# Altium integrated library Renesas ASSP.IntLib: 185 symbols (part 3 of 6)
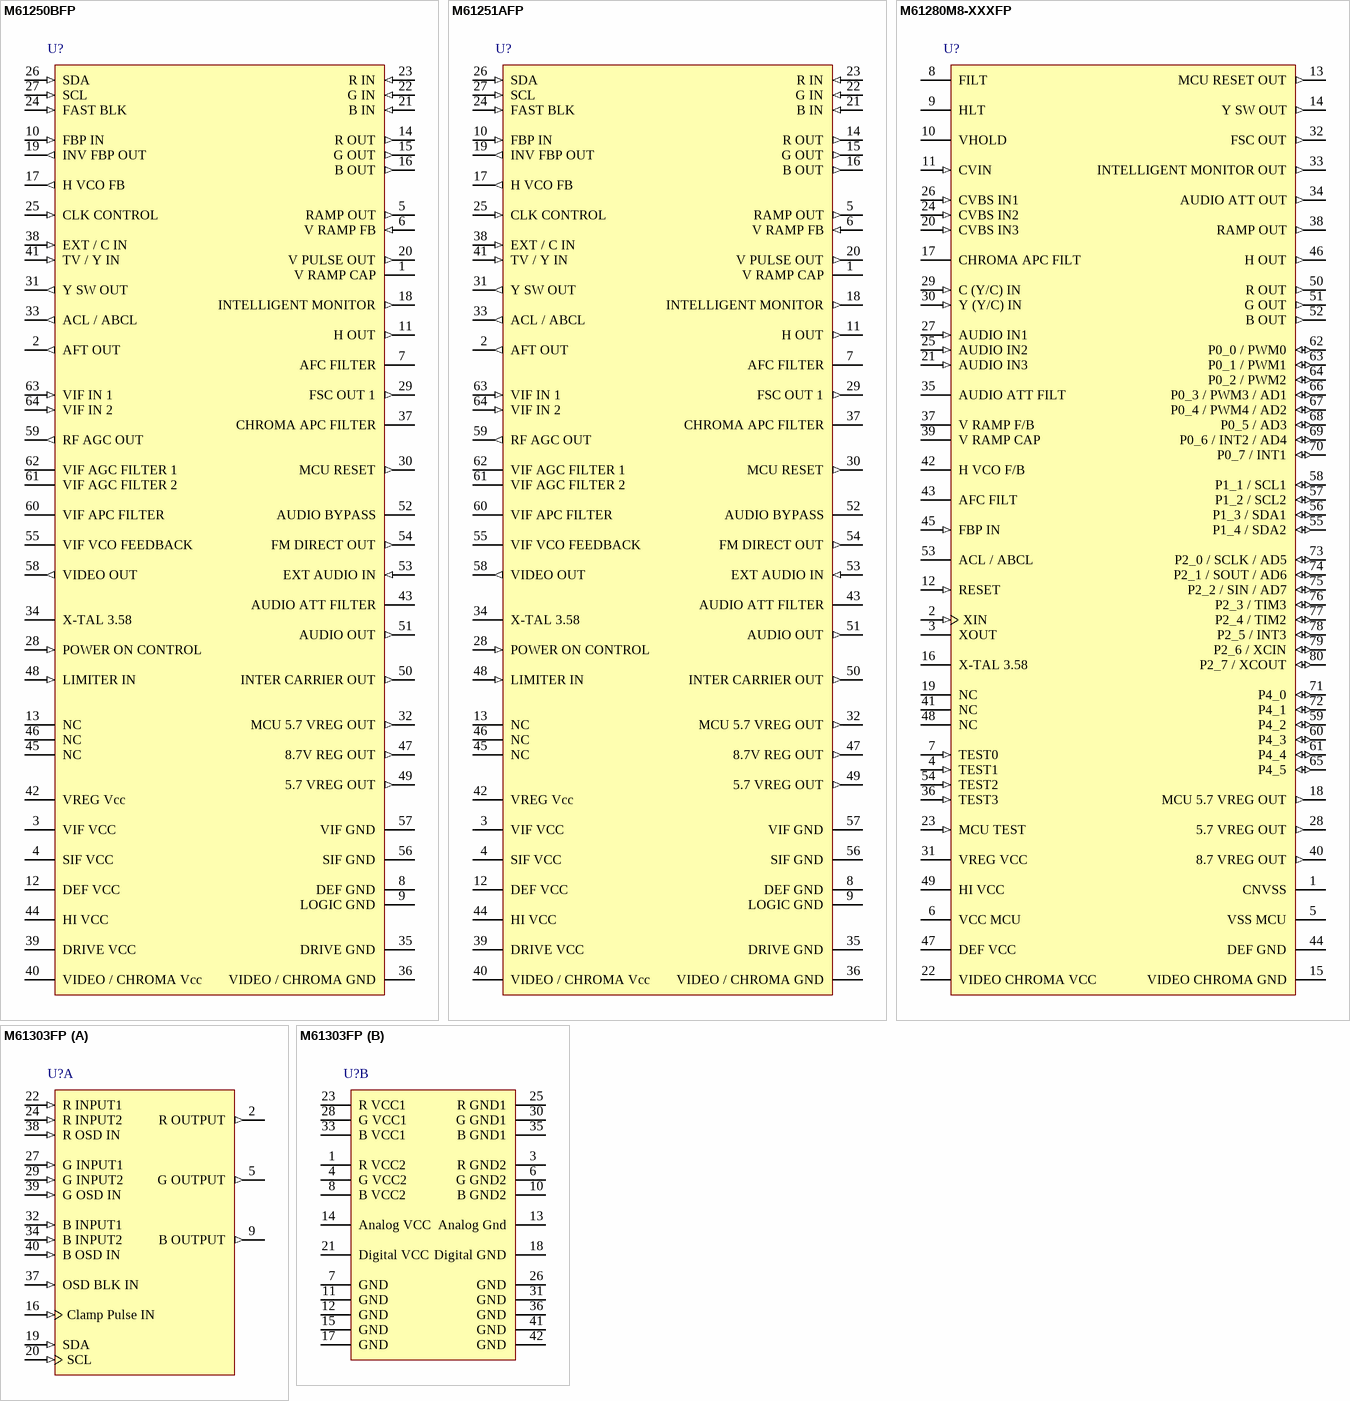
[diagram p18: symbols M61250BFP to M61303FP]

## M61250BFP
designator U?
NTSC 1 chip TV signal processor, 64-Pin QFP; Published: 5-Feb-2010; DatasheetVersion: Rev.1.0, Sep-2003; PackageVersion: Oct-2005; PackageReference: PLQP0064GA-A; Publisher: Altium Limited; PackageDescription: 64-Pin Plastic Low Profile QFP, 14 x 14 x 1.4 mm Body, 0.8 mm Pitch; Code_JEITA: P-LQFP64-14x14-0.80; ComponentLink1Description: Manufacturer Link; ComponentLink1URL: http://sg.renesas.com/fmwk.jsp?cnt=assp_category_landing.jsp&fp=/products/assp; ComponentLink2Description: Datasheet; ComponentLink2URL: http://documentation.renesas.com/eng/products/assp/rej03f0088_m61250bfp.pdf; ComponentLink3Description: Packaging Specification; ComponentLink3URL: http://sg.renesas.com/media/products/common_info/package/pdf/ic/code/plqp0064ga_a.pdf
footprint PLQP0064GA-A_N (QFP, 64-Leads, Body 14x14mm, Pitch 0.8mm, IPC Medium Density)
footprint PLQP0064GA-A_L (QFP, 64-Leads, Body 14x14mm, Pitch 0.8mm, IPC High Density)
footprint PLQP0064GA-A_M (QFP, 64-Leads, Body 14x14mm, Pitch 0.8mm, IPC Low Density)
pins: 1 V RAMP CAP, 2 AFT OUT (out), 3 VIF VCC (power), 4 SIF VCC (power), 5 RAMP OUT (out), 6 V RAMP FB (in), 7 AFC FILTER, 8 DEF GND (power), 9 LOGIC GND (power), 10 FBP IN (in), 11 H OUT (out), 12 DEF VCC (power), 13 NC, 14 R OUT (out), 15 G OUT (out), 16 B OUT (out), 17 H VCO FB (out), 18 INTELLIGENT MONITOR (out), 19 INV FBP OUT (out), 20 V PULSE OUT (out), 21 B IN (in), 22 G IN (in), 23 R IN (in), 24 FAST BLK (in), 25 CLK CONTROL (in), 26 SDA (in), 27 SCL (in), 28 POWER ON CONTROL (in), 29 FSC OUT 1 (out), 30 MCU RESET (out), 31 Y SW OUT (out), 32 MCU 5.7 VREG OUT (out), 33 ACL / ABCL (out), 34 X-TAL 3.58, 35 DRIVE GND (power), 36 VIDEO / CHROMA GND (power), 37 CHROMA APC FILTER, 38 EXT / C IN (in), 39 DRIVE VCC (power), 40 VIDEO / CHROMA Vcc (power), 41 TV / Y IN (in), 42 VREG Vcc (power), 43 AUDIO ATT FILTER, 44 HI VCC (power), 45 NC, 46 NC, 47 8.7V REG OUT (out), 48 LIMITER IN (in), 49 5.7 VREG OUT (out), 50 INTER CARRIER OUT (out), 51 AUDIO OUT (out), 52 AUDIO BYPASS, 53 EXT AUDIO IN (in), 54 FM DIRECT OUT (out), 55 VIF VCO FEEDBACK, 56 SIF GND (power), 57 VIF GND (power), 58 VIDEO OUT (out), 59 RF AGC OUT (out), 60 VIF APC FILTER, 61 VIF AGC FILTER 2, 62 VIF AGC FILTER 1, 63 VIF IN 1 (in), 64 VIF IN 2 (in)

## M61251AFP
designator U?
Single-chip NTSC TV signal processor, 64-Pin QFP; ComponentAvailability: Not Recommended for New Design; Published: 5-Feb-2010; DatasheetVersion: Rev.1.0, Sep-2003; PackageVersion: Oct-2005; PackageReference: PLQP0064GA-A; Publisher: Altium Limited; PackageDescription: 64-Pin Plastic Low Profile QFP, 14 x 14 x 1.4 mm Body, 0.8 mm Pitch; Code_JEITA: P-LQFP64-14x14-0.80; ComponentLink1Description: Manufacturer Link; ComponentLink1URL: http://sg.renesas.com/fmwk.jsp?cnt=assp_category_landing.jsp&fp=/products/assp; ComponentLink2Description: Datasheet; ComponentLink2URL: http://documentation.renesas.com/eng/products/assp/rej03f0078_m61251afp.pdf; ComponentLink3Description: Packaging Specification; ComponentLink3URL: http://sg.renesas.com/media/products/common_info/package/pdf/ic/code/plqp0064ga_a.pdf
footprint PLQP0064GA-A_N (QFP, 64-Leads, Body 14x14mm, Pitch 0.8mm, IPC Medium Density)
footprint PLQP0064GA-A_L (QFP, 64-Leads, Body 14x14mm, Pitch 0.8mm, IPC High Density)
footprint PLQP0064GA-A_M (QFP, 64-Leads, Body 14x14mm, Pitch 0.8mm, IPC Low Density)
pins: 1 V RAMP CAP, 2 AFT OUT (out), 3 VIF VCC (power), 4 SIF VCC (power), 5 RAMP OUT (out), 6 V RAMP FB (in), 7 AFC FILTER, 8 DEF GND (power), 9 LOGIC GND (power), 10 FBP IN (in), 11 H OUT (out), 12 DEF VCC (power), 13 NC, 14 R OUT (out), 15 G OUT (out), 16 B OUT (out), 17 H VCO FB (out), 18 INTELLIGENT MONITOR (out), 19 INV FBP OUT (out), 20 V PULSE OUT (out), 21 B IN (in), 22 G IN (in), 23 R IN (in), 24 FAST BLK (in), 25 CLK CONTROL (in), 26 SDA (in), 27 SCL (in), 28 POWER ON CONTROL (in), 29 FSC OUT 1 (out), 30 MCU RESET (out), 31 Y SW OUT (out), 32 MCU 5.7 VREG OUT (out), 33 ACL / ABCL (out), 34 X-TAL 3.58, 35 DRIVE GND (power), 36 VIDEO / CHROMA GND (power), 37 CHROMA APC FILTER, 38 EXT / C IN (in), 39 DRIVE VCC (power), 40 VIDEO / CHROMA Vcc (power), 41 TV / Y IN (in), 42 VREG Vcc (power), 43 AUDIO ATT FILTER, 44 HI VCC (power), 45 NC, 46 NC, 47 8.7V REG OUT (out), 48 LIMITER IN (in), 49 5.7 VREG OUT (out), 50 INTER CARRIER OUT (out), 51 AUDIO OUT (out), 52 AUDIO BYPASS, 53 EXT AUDIO IN (in), 54 FM DIRECT OUT (out), 55 VIF VCO FEEDBACK, 56 SIF GND (power), 57 VIF GND (power), 58 VIDEO OUT (out), 59 RF AGC OUT (out), 60 VIF APC FILTER, 61 VIF AGC FILTER 2, 62 VIF AGC FILTER 1, 63 VIF IN 1 (in), 64 VIF IN 2 (in)

## M61280M8-XXXFP
designator U?
NTSC TV Signal Processor with MCU, 80-Pin QFP; ComponentAvailability: EOL Product; Published: 5-Feb-2010; DatasheetVersion: Rev.1.0, Sep-2003; PackageVersion: Jan-2006; PackageReference: PLQP0080GA-A; Publisher: Altium Limited; PackageDescription: 80-Pin Plastic Quad Flat Pack, 20 x 14 x 1.4 mm Body, 0.8 mm Pitch; Code_JEITA: P-LQFP80-14x20-0.80; ComponentLink1Description: Manufacturer Link; ComponentLink1URL: http://sg.renesas.com/fmwk.jsp?cnt=assp_category_landing.jsp&fp=/products/assp; ComponentLink2Description: Datasheet; ComponentLink2URL: http://documentation.renesas.com/eng/products/assp/rej03f0053_m61280m8xxxfp.pdf; ComponentLink3Description: Packaging Specification; ComponentLink3URL: http://sg.renesas.com/media/products/common_info/package/pdf/ic/code/plqp0080ga_a.pdf
footprint PLQP0080GA-A_N (QFP, 80-Leads, Body 20x14mm, Pitch 0.8mm, IPC Medium Density)
footprint PLQP0080GA-A_L (QFP, 80-Leads, Body 20x14mm, Pitch 0.8mm, IPC High Density)
footprint PLQP0080GA-A_M (QFP, 80-Leads, Body 20x14mm, Pitch 0.8mm, IPC Low Density)
pins: 1 CNVSS (power), 2 XIN (in), 3 XOUT, 4 TEST1 (in), 5 VSS MCU (power), 6 VCC MCU (power), 7 TEST0 (in), 8 FILT, 9 HLT, 10 VHOLD, 11 CVIN (in), 12 RESET (in), 13 MCU RESET OUT (out), 14 Y SW OUT (out), 15 VIDEO CHROMA GND (power), 16 X-TAL 3.58, 17 CHROMA APC FILT, 18 MCU 5.7 VREG OUT (out), 19 NC, 20 CVBS IN3 (in), 21 AUDIO IN3 (in), 22 VIDEO CHROMA VCC (power), 23 MCU TEST (in), 24 CVBS IN2 (in), 25 AUDIO IN2 (in), 26 CVBS IN1 (in), 27 AUDIO IN1 (in), 28 5.7 VREG OUT (out), 29 C (Y/C) IN (in), 30 Y (Y/C) IN (in), 31 VREG VCC (power), 32 FSC OUT (out), 33 INTELLIGENT MONITOR OUT (out), 34 AUDIO ATT OUT (out), 35 AUDIO ATT FILT, 36 TEST3 (in), 37 V RAMP F/B, 38 RAMP OUT (out), 39 V RAMP CAP, 40 8.7 VREG OUT (out), 41 NC, 42 H VCO F/B, 43 AFC FILT, 44 DEF GND (power), 45 FBP IN (in), 46 H OUT (out), 47 DEF VCC (power), 48 NC, 49 HI VCC (power), 50 R OUT (out), 51 G OUT (out), 52 B OUT (out), 53 ACL / ABCL, 54 TEST2 (in), 55 P1_4 / SDA2 (io), 56 P1_3 / SDA1 (io), 57 P1_2 / SCL2 (io), 58 P1_1 / SCL1 (io), 59 P4_2 (io), 60 P4_3 (io), 61 P4_4 (io), 62 P0_0 / PWM0 (io), 63 P0_1 / PWM1 (io), 64 P0_2 / PWM2 (io), 65 P4_5 (io), 66 P0_3 / PWM3 / AD1 (io), 67 P0_4 / PWM4 / AD2 (io), 68 P0_5 / AD3 (io), 69 P0_6 / INT2 / AD4 (io), 70 P0_7 / INT1 (io), 71 P4_0 (io), 72 P4_1 (io), 73 P2_0 / SCLK / AD5 (io), 74 P2_1 / SOUT / AD6 (io), 75 P2_2 / SIN / AD7 (io), 76 P2_3 / TIM3 (io), 77 P2_4 / TIM2 (io), 78 P2_5 / INT3 (io), 79 P2_6 / XCIN (io), 80 P2_7 / XCOUT (io)

## M61303FP
designator U?
Bus Controlled 3 channel Video Pre-amp for LCD Display Monitor, 48-Pin SOP; ComponentAvailability: EOL Product; Published: 5-Feb-2010; DatasheetVersion: Rev.2.01, Mar-2008; PackageVersion: Aug-2005; PackageReference: PRSP0042GB-B; Publisher: Altium Limited; PackageDescription: 42-Pin Plastic Shrink SOP, 17.5 x 8.4 mm Body, 0.8 mm Pitch; Code_JEITA: P-HSSOP42-8.4x17.5-0.80; ComponentLink1Description: Manufacturer Link; ComponentLink1URL: http://sg.renesas.com/fmwk.jsp?cnt=assp_category_landing.jsp&fp=/products/assp; ComponentLink2Description: Datasheet; ComponentLink2URL: http://documentation.renesas.com/eng/products/assp/rej03f0198_m61303fpds.pdf; ComponentLink3Description: Packaging Specification; ComponentLink3URL: http://sg.renesas.com/media/products/common_info/package/pdf/ic/code/prsp0042gb_b.pdf
footprint PRSP0042GB-B_N (SOP, 42-Leads, Body 17.5x8.4mm, Pitch 0.8mm, Exposed Pad, IPC Medium Density)
footprint PRSP0042GB-B_L (SOP, 42-Leads, Body 17.5x8.4mm, Pitch 0.8mm, Exposed Pad, IPC High Density)
footprint PRSP0042GB-B_M (SOP, 42-Leads, Body 17.5x8.4mm, Pitch 0.8mm, Exposed Pad, IPC Low Density)
part A pins: 2 R OUTPUT (out), 5 G OUTPUT (out), 9 B OUTPUT (out), 16 Clamp Pulse IN (in), 19 SDA (in), 20 SCL (in), 22 R INPUT1 (in), 24 R INPUT2 (in), 27 G INPUT1 (in), 29 G INPUT2 (in), 32 B INPUT1 (in), 34 B INPUT2 (in), 37 OSD BLK IN (in), 38 R OSD IN (in), 39 G OSD IN (in), 40 B OSD IN (in)
part B pins: 1 R VCC2 (power), 3 R GND2 (power), 4 G VCC2 (power), 6 G GND2 (power), 7 GND (power), 8 B VCC2 (power), 10 B GND2 (power), 11 GND (power), 12 GND (power), 13 Analog Gnd (power), 14 Analog VCC (power), 15 GND (power), 17 GND (power), 18 Digital GND (power), 21 Digital VCC (power), 23 R VCC1 (power), 25 R GND1 (power), 26 GND (power), 28 G VCC1 (power), 30 G GND1 (power), 31 GND (power), 33 B VCC1 (power), 35 B GND1 (power), 36 GND (power), 41 GND (power), 42 GND (power)

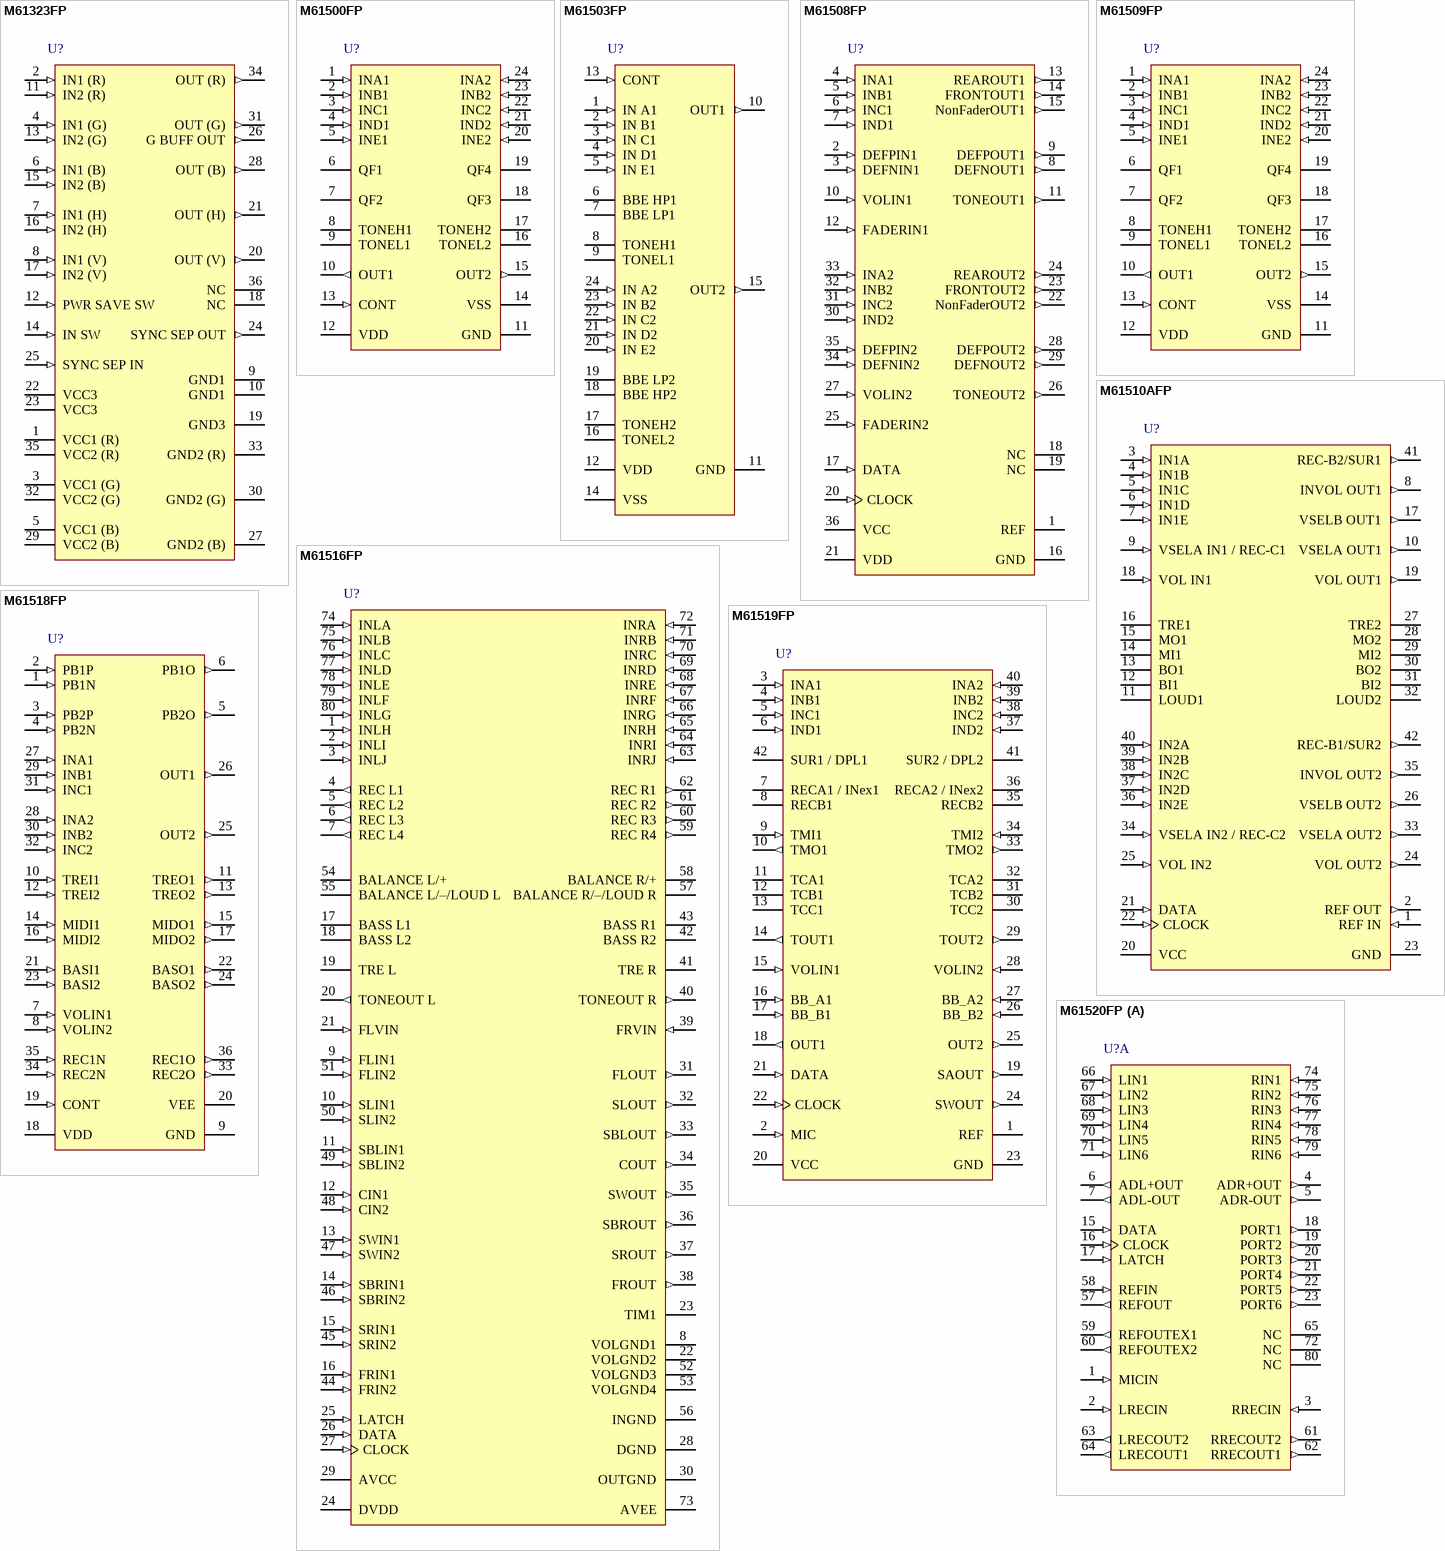
[diagram p6: symbols M61323FP to M61520FP]

## M61323FP
designator U?
Wide Frequency Band Analog Switch, 36-Pin SOP; ComponentAvailability: Not Recommended for New Design; Published: 5-Feb-2010; DatasheetVersion: Rev.2.01, Mar-2008; PackageVersion: Sep-2005; PackageReference: PRSP0036GA-B; Publisher: Altium Limited; PackageDescription: 36-Pin Plastic Shrink SOP, 15 x 8.4 mm Body, 0.8 mm Pitch; Code_JEITA: P-SSOP36-8.4x15-0.80; ComponentLink1Description: Manufacturer Link; ComponentLink1URL: http://sg.renesas.com/fmwk.jsp?cnt=assp_category_landing.jsp&fp=/products/assp; ComponentLink2Description: Datasheet; ComponentLink2URL: http://documentation.renesas.com/eng/products/assp/rej03f0201_m61323spds.pdf; ComponentLink3Description: Packaging Specification; ComponentLink3URL: http://sg.renesas.com/media/products/common_info/package/pdf/ic/code/prsp0036ga_b.pdf
footprint PRSP0036GA-B_N (SOP, 36-Leads, Body 15x8.4mm, Pitch 0.8mm, IPC Medium Density)
footprint PRSP0036GA-B_L (SOP, 36-Leads, Body 15x8.4mm, Pitch 0.8mm, IPC High Density)
footprint PRSP0036GA-B_M (SOP, 36-Leads, Body 15x8.4mm, Pitch 0.8mm, IPC Low Density)
pins: 1 VCC1 (R) (power), 2 IN1 (R) (in), 3 VCC1 (G) (power), 4 IN1 (G) (in), 5 VCC1 (B) (power), 6 IN1 (B) (in), 7 IN1 (H) (in), 8 IN1 (V) (in), 9 GND1 (power), 10 GND1 (power), 11 IN2 (R) (in), 12 PWR SAVE SW (in), 13 IN2 (G) (in), 14 IN SW (in), 15 IN2 (B) (in), 16 IN2 (H) (in), 17 IN2 (V) (in), 18 NC, 19 GND3 (power), 20 OUT (V) (out), 21 OUT (H) (out), 22 VCC3 (power), 23 VCC3 (power), 24 SYNC SEP OUT (out), 25 SYNC SEP IN (in), 26 G BUFF OUT (out), 27 GND2 (B) (power), 28 OUT (B) (out), 29 VCC2 (B) (power), 30 GND2 (G) (power), 31 OUT (G) (out), 32 VCC2 (G) (power), 33 GND2 (R) (power), 34 OUT (R) (out), 35 VCC2 (R) (power), 36 NC

## M61500FP
designator U?
Sound Controller with Qsurround, 24-Pin SOP; Published: 5-Feb-2010; DatasheetVersion: Rev.2.00, Jun-2008; PackageVersion: Sep-2005; PackageReference: PRSP0024GA-A; Publisher: Altium Limited; PackageDescription: 24-Pin Plastic Shrink SOP, 10.1 x 5.3 x 1.8 mm Body, 0.8 mm Pitch; Code_JEITA: P-SSOP24-5.3x10.1-0.80; ComponentLink1Description: Manufacturer Link; ComponentLink1URL: http://sg.renesas.com/fmwk.jsp?cnt=assp_category_landing.jsp&fp=/products/assp; ComponentLink2Description: Datasheet; ComponentLink2URL: http://documentation.renesas.com/eng/products/assp/rej03f0274_m61500fpds.pdf; ComponentLink3Description: Packaging Specification; ComponentLink3URL: http://sg.renesas.com/media/products/common_info/package/pdf/ic/code/prsp0024ga_a.pdf
footprint PRSP0024GA-A_N (SOP, 24-Leads, Body 10.1x5.3mm, Pitch 0.8mm, IPC Medium Density)
footprint PRSP0024GA-A_L (SOP, 24-Leads, Body 10.1x5.3mm, Pitch 0.8mm, IPC High Density)
footprint PRSP0024GA-A_M (SOP, 24-Leads, Body 10.1x5.3mm, Pitch 0.8mm, IPC Low Density)
pins: 1 INA1 (in), 2 INB1 (in), 3 INC1 (in), 4 IND1 (in), 5 INE1 (in), 6 QF1, 7 QF2, 8 TONEH1, 9 TONEL1, 10 OUT1 (out), 11 GND (power), 12 VDD (power), 13 CONT (in), 14 VSS (power), 15 OUT2 (out), 16 TONEL2, 17 TONEH2, 18 QF3, 19 QF4, 20 INE2 (in), 21 IND2 (in), 22 INC2 (in), 23 INB2 (in), 24 INA2 (in)

## M61503FP
designator U?
Sound Controller with BBE, 24-Pin SOP; Published: 5-Feb-2010; DatasheetVersion: Rev.2.01, Mar-2008; PackageVersion: Sep-2005; PackageReference: PRSP0024GA-A; Publisher: Altium Limited; PackageDescription: 24-Pin Plastic Shrink SOP, 10.1 x 5.3 x 1.8 mm Body, 0.8 mm Pitch; Code_JEITA: P-SSOP24-5.3x10.1-0.80; ComponentLink1Description: Manufacturer Link; ComponentLink1URL: http://sg.renesas.com/fmwk.jsp?cnt=assp_category_landing.jsp&fp=/products/assp; ComponentLink2Description: Datasheet; ComponentLink2URL: http://documentation.renesas.com/eng/products/assp/rej03f0214_m61503fpds.pdf; ComponentLink3Description: Packaging Specification; ComponentLink3URL: http://sg.renesas.com/media/products/common_info/package/pdf/ic/code/prsp0024ga_a.pdf
footprint PRSP0024GA-A_N (SOP, 24-Leads, Body 10.1x5.3mm, Pitch 0.8mm, IPC Medium Density)
footprint PRSP0024GA-A_L (SOP, 24-Leads, Body 10.1x5.3mm, Pitch 0.8mm, IPC High Density)
footprint PRSP0024GA-A_M (SOP, 24-Leads, Body 10.1x5.3mm, Pitch 0.8mm, IPC Low Density)
pins: 1 IN A1 (in), 2 IN B1 (in), 3 IN C1 (in), 4 IN D1 (in), 5 IN E1 (in), 6 BBE HP1, 7 BBE LP1, 8 TONEH1, 9 TONEL1, 10 OUT1 (out), 11 GND (power), 12 VDD (power), 13 CONT (in), 14 VSS (power), 15 OUT2 (out), 16 TONEL2, 17 TONEH2, 18 BBE HP2, 19 BBE LP2, 20 IN E2 (in), 21 IN D2 (in), 22 IN C2 (in), 23 IN B2 (in), 24 IN A2 (in)

## M61508FP
designator U?
SCF Type Electronic Volume with Parametric Equalizer, 36-Pin SOP; Published: 5-Feb-2010; DatasheetVersion: Rev.2.01, Mar-2008; PackageVersion: Sep-2005; PackageReference: PRSP0036GA-A; Publisher: Altium Limited; PackageDescription: 36-Pin Plastic Shrink SOP, 15 x 8.4 mm Body, 0.8 mm Pitch; Code_JEITA: P-SSOP36-8.4x15-0.80; ComponentLink1Description: Manufacturer Link; ComponentLink1URL: http://sg.renesas.com/fmwk.jsp?cnt=assp_category_landing.jsp&fp=/products/assp; ComponentLink2Description: Datasheet; ComponentLink2URL: http://documentation.renesas.com/eng/products/assp/rej03f0203_m61508fpds.pdf; ComponentLink3Description: Packaging Specification; ComponentLink3URL: http://sg.renesas.com/media/products/common_info/package/pdf/ic/code/prsp0036ga_a.pdf
footprint PRSP0036GA-A_N (SOP, 36-Leads, Body 15x8.4mm, Pitch 0.8mm, IPC Medium Density)
footprint PRSP0036GA-A_L (SOP, 36-Leads, Body 15x8.4mm, Pitch 0.8mm, IPC High Density)
footprint PRSP0036GA-A_M (SOP, 36-Leads, Body 15x8.4mm, Pitch 0.8mm, IPC Low Density)
pins: 1 REF (power), 2 DEFPIN1 (in), 3 DEFNIN1 (in), 4 INA1 (in), 5 INB1 (in), 6 INC1 (in), 7 IND1 (in), 8 DEFNOUT1 (out), 9 DEFPOUT1 (out), 10 VOLIN1 (in), 11 TONEOUT1 (out), 12 FADERIN1 (in), 13 REAROUT1 (out), 14 FRONTOUT1 (out), 15 NonFaderOUT1 (out), 16 GND (power), 17 DATA (in), 18 NC, 19 NC, 20 CLOCK (in), 21 VDD (power), 22 NonFaderOUT2 (out), 23 FRONTOUT2 (out), 24 REAROUT2 (out), 25 FADERIN2 (in), 26 TONEOUT2 (out), 27 VOLIN2 (in), 28 DEFPOUT2 (out), 29 DEFNOUT2 (out), 30 IND2 (in), 31 INC2 (in), 32 INB2 (in), 33 INA2 (in), 34 DEFNIN2 (in), 35 DEFPIN2 (in), 36 VCC (power)

## M61509FP
designator U?
Sound Controller with QXpander, 24-Pin SOP; Published: 5-Feb-2010; DatasheetVersion: Rev.2.01, Mar-2008; PackageVersion: Sep-2005; PackageReference: PRSP0024GA-A; Publisher: Altium Limited; PackageDescription: 24-Pin Plastic Shrink SOP, 10.1 x 5.3 x 1.8 mm Body, 0.8 mm Pitch; Code_JEITA: P-SSOP24-5.3x10.1-0.80; ComponentLink1Description: Manufacturer Link; ComponentLink1URL: http://sg.renesas.com/fmwk.jsp?cnt=assp_category_landing.jsp&fp=/products/assp; ComponentLink2Description: Datasheet; ComponentLink2URL: http://documentation.renesas.com/eng/products/assp/rej03f0215_m61509fpds.pdf; ComponentLink3Description: Packaging Specification; ComponentLink3URL: http://sg.renesas.com/media/products/common_info/package/pdf/ic/code/prsp0024ga_a.pdf
footprint PRSP0024GA-A_N (SOP, 24-Leads, Body 10.1x5.3mm, Pitch 0.8mm, IPC Medium Density)
footprint PRSP0024GA-A_L (SOP, 24-Leads, Body 10.1x5.3mm, Pitch 0.8mm, IPC High Density)
footprint PRSP0024GA-A_M (SOP, 24-Leads, Body 10.1x5.3mm, Pitch 0.8mm, IPC Low Density)
pins: 1 INA1 (in), 2 INB1 (in), 3 INC1 (in), 4 IND1 (in), 5 INE1 (in), 6 QF1, 7 QF2, 8 TONEH1, 9 TONEL1, 10 OUT1 (out), 11 GND (power), 12 VDD (power), 13 CONT (in), 14 VSS (power), 15 OUT2 (out), 16 TONEL2, 17 TONEH2, 18 QF3, 19 QF4, 20 INE2 (in), 21 IND2 (in), 22 INC2 (in), 23 INB2 (in), 24 INA2 (in)

## M61510AFP
designator U?
Sound Controller for Quality/Sound Field Control, with Built-In Surround Sound, 42-Pin SOP; Published: 5-Feb-2010; DatasheetVersion: Rev.1.00, Aug-2003; PackageVersion: Sep-2005; PackageReference: PRSP0042GA-B; Publisher: Altium Limited; PackageDescription: 42-Pin Plastic Shrink SOP, 17.5 x 8.4 mm Body, 0.8 mm Pitch; Code_JEITA: P-SSOP42-8.4x17.5-0.80; ComponentLink1Description: Manufacturer Link; ComponentLink1URL: http://sg.renesas.com/fmwk.jsp?cnt=assp_category_landing.jsp&fp=/products/assp; ComponentLink2Description: Datasheet; ComponentLink2URL: http://documentation.renesas.com/eng/products/assp/rej03f0013_m61510afp.pdf; ComponentLink3Description: Packaging Specification; ComponentLink3URL: http://sg.renesas.com/media/products/common_info/package/pdf/ic/code/prsp0042ga_b.pdf
footprint PRSP0042GA-B_N (SOP, 42-Leads, Body 17.5x8.4mm, Pitch 0.8mm, IPC Medium Density)
footprint PRSP0042GA-B_L (SOP, 42-Leads, Body 17.5x8.4mm, Pitch 0.8mm, IPC High Density)
footprint PRSP0042GA-B_M (SOP, 42-Leads, Body 17.5x8.4mm, Pitch 0.8mm, IPC Low Density)
pins: 1 REF IN (in), 2 REF OUT (out), 3 IN1A (in), 4 IN1B (in), 5 IN1C (in), 6 IN1D (in), 7 IN1E (in), 8 INVOL OUT1 (out), 9 VSELA IN1 / REC-C1 (in), 10 VSELA OUT1 (out), 11 LOUD1, 12 BI1, 13 BO1, 14 MI1, 15 MO1, 16 TRE1, 17 VSELB OUT1 (out), 18 VOL IN1 (in), 19 VOL OUT1 (out), 20 VCC (power), 21 DATA (in), 22 CLOCK (in), 23 GND (power), 24 VOL OUT2 (out), 25 VOL IN2 (in), 26 VSELB OUT2 (out), 27 TRE2, 28 MO2, 29 MI2, 30 BO2, 31 BI2, 32 LOUD2, 33 VSELA OUT2 (out), 34 VSELA IN2 / REC-C2 (in), 35 INVOL OUT2 (out), 36 IN2E (in), 37 IN2D (in), 38 IN2C (in), 39 IN2B (in), 40 IN2A (in), 41 REC-B2/SUR1 (out), 42 REC-B1/SUR2 (out)

## M61516FP
designator U?
7.1ch Electronic Volume with 10 Input Selector, 80-Pin QFP; Published: 5-Feb-2010; DatasheetVersion: Rev.2.01, Mar-2008; PackageVersion: Sep-2005; PackageReference: PRQP0080GB-A; Publisher: Altium Limited; PackageDescription: 80-Pin Plastic Quad Flat Pack, 20 x 14 x 2.8 mm Body, 0.8 mm Pitch; Code_JEITA: P-QFP80-14x20-0.80; ComponentLink1Description: Manufacturer Link; ComponentLink1URL: http://sg.renesas.com/fmwk.jsp?cnt=assp_category_landing.jsp&fp=/products/assp; ComponentLink2Description: Datasheet; ComponentLink2URL: http://documentation.renesas.com/eng/products/assp/rej03f0204_m61516fpds.pdf; ComponentLink3Description: Packaging Specification; ComponentLink3URL: http://sg.renesas.com/media/products/common_info/package/pdf/ic/code/prqp0080gb_a.pdf
footprint PRQP0080GB-A_N (QFP, 80-Leads, Body 20x14mm, Pitch 0.8mm, IPC Medium Density)
footprint PRQP0080GB-A_L (QFP, 80-Leads, Body 20x14mm, Pitch 0.8mm, IPC High Density)
footprint PRQP0080GB-A_M (QFP, 80-Leads, Body 20x14mm, Pitch 0.8mm, IPC Low Density)
pins: 1 INLH (in), 2 INLI (in), 3 INLJ (in), 4 REC L1 (out), 5 REC L2 (out), 6 REC L3 (out), 7 REC L4 (out), 8 VOLGND1 (power), 9 FLIN1 (in), 10 SLIN1 (in), 11 SBLIN1 (in), 12 CIN1 (in), 13 SWIN1 (in), 14 SBRIN1 (in), 15 SRIN1 (in), 16 FRIN1 (in), 17 BASS L1, 18 BASS L2, 19 TRE L, 20 TONEOUT L (out), 21 FLVIN (in), 22 VOLGND2 (power), 23 TIM1, 24 DVDD (power), 25 LATCH (in), 26 DATA (in), 27 CLOCK (in), 28 DGND (power), 29 AVCC (power), 30 OUTGND (power), 31 FLOUT (out), 32 SLOUT (out), 33 SBLOUT (out), 34 COUT (out), 35 SWOUT (out), 36 SBROUT (out), 37 SROUT (out), 38 FROUT (out), 39 FRVIN (in), 40 TONEOUT R (out), 41 TRE R, 42 BASS R2, 43 BASS R1, 44 FRIN2 (in), 45 SRIN2 (in), 46 SBRIN2 (in), 47 SWIN2 (in), 48 CIN2 (in), 49 SBLIN2 (in), 50 SLIN2 (in), 51 FLIN2 (in), 52 VOLGND3 (power), 53 VOLGND4 (power), 54 BALANCE L/+, 55 BALANCE L/–/LOUD L, 56 INGND (power), 57 BALANCE R/–/LOUD R, 58 BALANCE R/+, 59 REC R4 (out), 60 REC R3 (out), 61 REC R2 (out), 62 REC R1 (out), 63 INRJ (in), 64 INRI (in), 65 INRH (in), 66 INRG (in), 67 INRF (in), 68 INRE (in), 69 INRD (in), 70 INRC (in), 71 INRB (in), 72 INRA (in), 73 AVEE (power), 74 INLA (in), 75 INLB (in), 76 INLC (in), 77 INLD (in), 78 INLE (in), 79 INLF (in), 80 INLG (in)

## M61518FP
designator U?
Audio signal Processor with Recording/Playback Amplifier, 36-Pin SOP; Published: 5-Feb-2010; DatasheetVersion: Rev.2.01, Mar-2008; PackageVersion: Sep-2005; PackageReference: PRSP0036GA-B; Publisher: Altium Limited; PackageDescription: 36-Pin Plastic Shrink SOP, 15 x 8.4 mm Body, 0.8 mm Pitch; Code_JEITA: P-SSOP36-8.4x15-0.80; ComponentLink1Description: Manufacturer Link; ComponentLink1URL: http://sg.renesas.com/fmwk.jsp?cnt=assp_category_landing.jsp&fp=/products/assp; ComponentLink2Description: Datasheet; ComponentLink2URL: http://documentation.renesas.com/eng/products/assp/rej03f0205_m61518fpds.pdf; ComponentLink3Description: Packaging Specification; ComponentLink3URL: http://sg.renesas.com/media/products/common_info/package/pdf/ic/code/prsp0036ga_b.pdf
footprint PRSP0036GA-B_N (SOP, 36-Leads, Body 15x8.4mm, Pitch 0.8mm, IPC Medium Density)
footprint PRSP0036GA-B_L (SOP, 36-Leads, Body 15x8.4mm, Pitch 0.8mm, IPC High Density)
footprint PRSP0036GA-B_M (SOP, 36-Leads, Body 15x8.4mm, Pitch 0.8mm, IPC Low Density)
pins: 1 PB1N (in), 2 PB1P (in), 3 PB2P (in), 4 PB2N (in), 5 PB2O (out), 6 PB1O (out), 7 VOLIN1 (in), 8 VOLIN2 (in), 9 GND (power), 10 TREI1 (in), 11 TREO1 (out), 12 TREI2 (in), 13 TREO2 (out), 14 MIDI1 (in), 15 MIDO1 (out), 16 MIDI2 (in), 17 MIDO2 (out), 18 VDD (power), 19 CONT (in), 20 VEE (power), 21 BASI1 (in), 22 BASO1 (out), 23 BASI2 (in), 24 BASO2 (out), 25 OUT2 (out), 26 OUT1 (out), 27 INA1 (in), 28 INA2 (in), 29 INB1 (in), 30 INB2 (in), 31 INC1 (in), 32 INC2 (in), 33 REC2O (out), 34 REC2N (in), 35 REC1N (in), 36 REC1O (out)

## M61519FP
designator U?
Audio Signal Processor with Surround and Input Selector, 42-Pin SOP; Published: 5-Feb-2010; DatasheetVersion: Rev.2.01, Mar-2008; PackageVersion: Sep-2005; PackageReference: PRSP0042GA-B; Publisher: Altium Limited; PackageDescription: 42-Pin Plastic Shrink SOP, 17.5 x 8.4 mm Body, 0.8 mm Pitch; Code_JEITA: P-SSOP42-8.4x17.5-0.80; ComponentLink1Description: Manufacturer Link; ComponentLink1URL: http://sg.renesas.com/fmwk.jsp?cnt=assp_category_landing.jsp&fp=/products/assp; ComponentLink2Description: Datasheet; ComponentLink2URL: http://documentation.renesas.com/eng/products/assp/rej03f0206_m61519fpds.pdf; ComponentLink3Description: Packaging Specification; ComponentLink3URL: http://sg.renesas.com/media/products/common_info/package/pdf/ic/code/prsp0042ga_b.pdf
footprint PRSP0042GA-B_N (SOP, 42-Leads, Body 17.5x8.4mm, Pitch 0.8mm, IPC Medium Density)
footprint PRSP0042GA-B_L (SOP, 42-Leads, Body 17.5x8.4mm, Pitch 0.8mm, IPC High Density)
footprint PRSP0042GA-B_M (SOP, 42-Leads, Body 17.5x8.4mm, Pitch 0.8mm, IPC Low Density)
pins: 1 REF (power), 2 MIC (in), 3 INA1 (in), 4 INB1 (in), 5 INC1 (in), 6 IND1 (in), 7 RECA1 / INex1, 8 RECB1, 9 TMI1 (in), 10 TMO1 (out), 11 TCA1, 12 TCB1, 13 TCC1, 14 TOUT1 (out), 15 VOLIN1 (in), 16 BB_A1 (in), 17 BB_B1 (in), 18 OUT1 (out), 19 SAOUT (out), 20 VCC (power), 21 DATA (in), 22 CLOCK (in), 23 GND (power), 24 SWOUT (out), 25 OUT2 (out), 26 BB_B2 (in), 27 BB_A2 (in), 28 VOLIN2 (in), 29 TOUT2 (out), 30 TCC2, 31 TCB2, 32 TCA2, 33 TMO2 (out), 34 TMI2 (in), 35 RECB2, 36 RECA2 / INex2, 37 IND2 (in), 38 INC2 (in), 39 INB2 (in), 40 INA2 (in), 41 SUR2 / DPL2, 42 SUR1 / DPL1

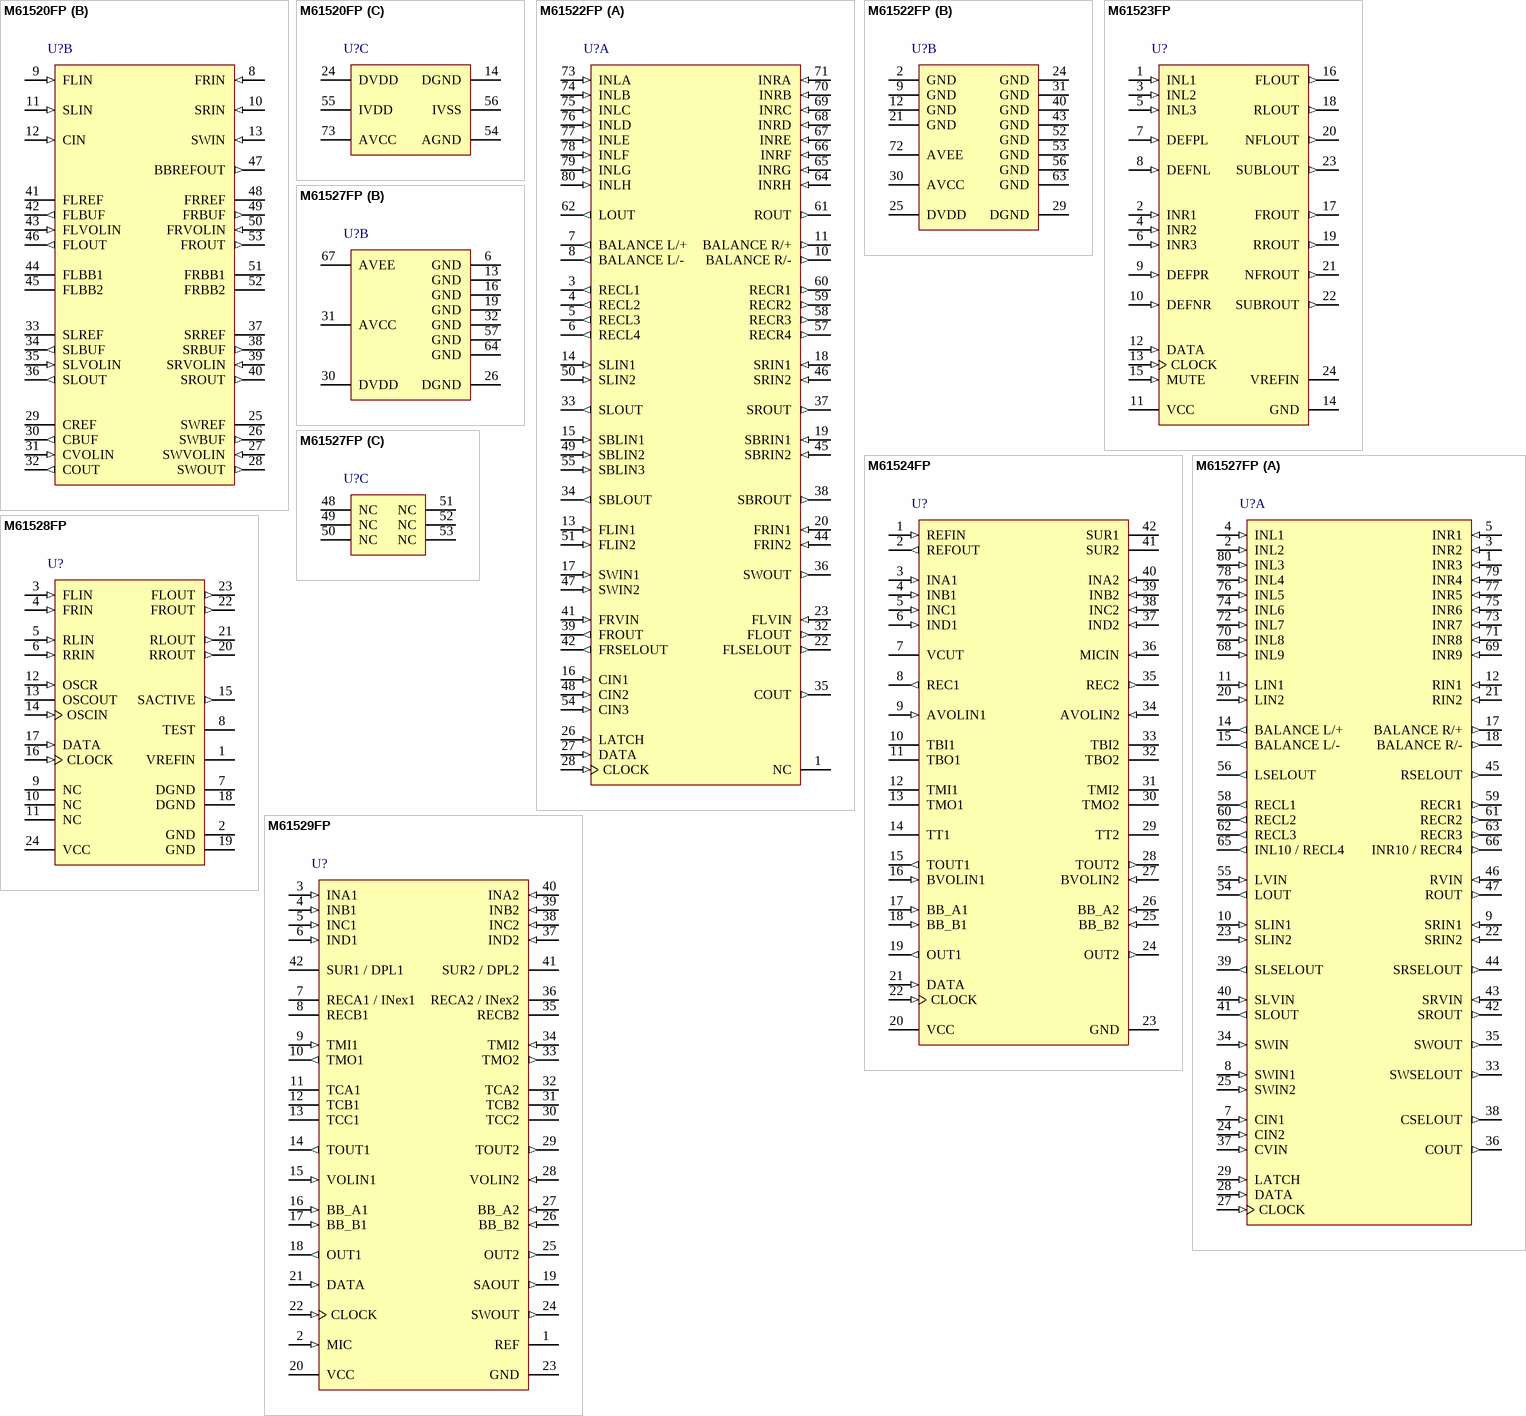
[diagram p7: symbols M61520FP to M61529FP]

## M61520FP
designator U?
6-Channel Electronic Volume with Tone Control, 80-Pin QFP; Published: 5-Feb-2010; DatasheetVersion: Rev.1.0, Sep-2003; PackageVersion: Sep-2005; PackageReference: PRQP0080GB-A; Publisher: Altium Limited; PackageDescription: 80-Pin Plastic Quad Flat Pack, 20 x 14 x 2.8 mm Body, 0.8 mm Pitch; Code_JEITA: P-QFP80-14x20-0.80; ComponentLink1Description: Manufacturer Link; ComponentLink1URL: http://sg.renesas.com/fmwk.jsp?cnt=assp_category_landing.jsp&fp=/products/assp; ComponentLink2Description: Datasheet; ComponentLink2URL: http://documentation.renesas.com/eng/products/assp/rej03f0057_m61520fp.pdf; ComponentLink3Description: Packaging Specification; ComponentLink3URL: http://sg.renesas.com/media/products/common_info/package/pdf/ic/code/prqp0080gb_a.pdf
footprint PRQP0080GB-A_N (QFP, 80-Leads, Body 20x14mm, Pitch 0.8mm, IPC Medium Density)
footprint PRQP0080GB-A_L (QFP, 80-Leads, Body 20x14mm, Pitch 0.8mm, IPC High Density)
footprint PRQP0080GB-A_M (QFP, 80-Leads, Body 20x14mm, Pitch 0.8mm, IPC Low Density)
part A pins: 1 MICIN (in), 2 LRECIN (in), 3 RRECIN (in), 4 ADR+OUT (out), 5 ADR-OUT (out), 6 ADL+OUT (out), 7 ADL-OUT (out), 15 DATA (in), 16 CLOCK (in), 17 LATCH (in), 18 PORT1 (out), 19 PORT2 (out), 20 PORT3 (out), 21 PORT4 (out), 22 PORT5 (out), 23 PORT6 (out), 57 REFOUT (out), 58 REFIN (in), 59 REFOUTEX1 (out), 60 REFOUTEX2 (out), 61 RRECOUT2 (out), 62 RRECOUT1 (out), 63 LRECOUT2 (out), 64 LRECOUT1 (out), 65 NC, 66 LIN1 (in), 67 LIN2 (in), 68 LIN3 (in), 69 LIN4 (in), 70 LIN5 (in), 71 LIN6 (in), 72 NC, 74 RIN1 (in), 75 RIN2 (in), 76 RIN3 (in), 77 RIN4 (in), 78 RIN5 (in), 79 RIN6 (in), 80 NC
part B pins: 8 FRIN (in), 9 FLIN (in), 10 SRIN (in), 11 SLIN (in), 12 CIN (in), 13 SWIN (in), 25 SWREF, 26 SWBUF (out), 27 SWVOLIN (in), 28 SWOUT (out), 29 CREF, 30 CBUF (out), 31 CVOLIN (in), 32 COUT (out), 33 SLREF, 34 SLBUF (out), 35 SLVOLIN (in), 36 SLOUT (out), 37 SRREF, 38 SRBUF (out), 39 SRVOLIN (in), 40 SROUT (out), 41 FLREF, 42 FLBUF (out), 43 FLVOLIN (in), 44 FLBB1, 45 FLBB2, 46 FLOUT (out), 47 BBREFOUT (out), 48 FRREF, 49 FRBUF (out), 50 FRVOLIN (in), 51 FRBB1, 52 FRBB2, 53 FROUT (out)
part C pins: 14 DGND, 24 DVDD, 54 AGND, 55 IVDD, 56 IVSS, 73 AVCC

## M61522FP
designator U?
8-Channel Electronic Volume with 8 Input Selectors, 80-Pin QFP; Published: 5-Feb-2010; DatasheetVersion: Rev.1.0, Sep-2003; PackageVersion: Sep-2005; PackageReference: PRQP0080GB-A; Publisher: Altium Limited; PackageDescription: 80-Pin Plastic Quad Flat Pack, 20 x 14 x 2.8 mm Body, 0.8 mm Pitch; Code_JEITA: P-QFP80-14x20-0.80; ComponentLink1Description: Manufacturer Link; ComponentLink1URL: http://sg.renesas.com/fmwk.jsp?cnt=assp_category_landing.jsp&fp=/products/assp; ComponentLink2Description: Datasheet; ComponentLink2URL: http://documentation.renesas.com/eng/products/assp/rej03f0034_m61522fp.pdf; ComponentLink3Description: Packaging Specification; ComponentLink3URL: http://sg.renesas.com/media/products/common_info/package/pdf/ic/code/prqp0080gb_a.pdf
footprint PRQP0080GB-A_N (QFP, 80-Leads, Body 20x14mm, Pitch 0.8mm, IPC Medium Density)
footprint PRQP0080GB-A_L (QFP, 80-Leads, Body 20x14mm, Pitch 0.8mm, IPC High Density)
footprint PRQP0080GB-A_M (QFP, 80-Leads, Body 20x14mm, Pitch 0.8mm, IPC Low Density)
part A pins: 1 NC, 3 RECL1 (out), 4 RECL2 (out), 5 RECL3 (out), 6 RECL4 (out), 7 BALANCE L/+ (out), 8 BALANCE L/- (out), 10 BALANCE R/- (out), 11 BALANCE R/+ (out), 13 FLIN1 (in), 14 SLIN1 (in), 15 SBLIN1 (in), 16 CIN1 (in), 17 SWIN1 (in), 18 SRIN1 (in), 19 SBRIN1 (in), 20 FRIN1 (in), 22 FLSELOUT (out), 23 FLVIN (in), 26 LATCH (in), 27 DATA (in), 28 CLOCK (in), 32 FLOUT (out), 33 SLOUT (out), 34 SBLOUT (out), 35 COUT (out), 36 SWOUT (out), 37 SROUT (out), 38 SBROUT (out), 39 FROUT (out), 41 FRVIN (in), 42 FRSELOUT (out), 44 FRIN2 (in), 45 SBRIN2 (in), 46 SRIN2 (in), 47 SWIN2 (in), 48 CIN2 (in), 49 SBLIN2 (in), 50 SLIN2 (in), 51 FLIN2 (in), 54 CIN3 (in), 55 SBLIN3 (in), 57 RECR4 (out), 58 RECR3 (out), 59 RECR2 (out), 60 RECR1 (out), 61 ROUT (out), 62 LOUT (out), 64 INRH (in), 65 INRG (in), 66 INRF (in), 67 INRE (in), 68 INRD (in), 69 INRC (in), 70 INRB (in), 71 INRA (in), 73 INLA (in), 74 INLB (in), 75 INLC (in), 76 INLD (in), 77 INLE (in), 78 INLF (in), 79 INLG (in), 80 INLH (in)
part B pins: 2 GND (power), 9 GND (power), 12 GND (power), 21 GND (power), 24 GND (power), 25 DVDD (power), 29 DGND (power), 30 AVCC (power), 31 GND (power), 40 GND (power), 43 GND (power), 52 GND (power), 53 GND (power), 56 GND (power), 63 GND (power), 72 AVEE (power)

## M61523FP
designator U?
Electronic Volume with SCF Type Tone Control to 6 Speakers, 24-Pin SOP; Published: 5-Feb-2010; DatasheetVersion: Rev.1.00, Sep-2003; PackageVersion: Sep-2005; PackageReference: PRSP0024GA-A; Publisher: Altium Limited; PackageDescription: 24-Pin Plastic Shrink SOP, 10.1 x 5.3 x 1.8 mm Body, 0.8 mm Pitch; Code_JEITA: P-SSOP24-5.3x10.1-0.80; ComponentLink1Description: Manufacturer Link; ComponentLink1URL: http://sg.renesas.com/fmwk.jsp?cnt=assp_category_landing.jsp&fp=/products/assp; ComponentLink2Description: Datasheet; ComponentLink2URL: http://documentation.renesas.com/eng/products/assp/rej03f0009_m61523fp.pdf; ComponentLink3Description: Packaging Specification; ComponentLink3URL: http://sg.renesas.com/media/products/common_info/package/pdf/ic/code/prsp0024ga_a.pdf
footprint PRSP0024GA-A_N (SOP, 24-Leads, Body 10.1x5.3mm, Pitch 0.8mm, IPC Medium Density)
footprint PRSP0024GA-A_L (SOP, 24-Leads, Body 10.1x5.3mm, Pitch 0.8mm, IPC High Density)
footprint PRSP0024GA-A_M (SOP, 24-Leads, Body 10.1x5.3mm, Pitch 0.8mm, IPC Low Density)
pins: 1 INL1 (in), 2 INR1 (in), 3 INL2 (in), 4 INR2 (in), 5 INL3 (in), 6 INR3 (in), 7 DEFPL (in), 8 DEFNL (in), 9 DEFPR (in), 10 DEFNR (in), 11 VCC (power), 12 DATA (in), 13 CLOCK (in), 14 GND (power), 15 MUTE (in), 16 FLOUT (out), 17 FROUT (out), 18 RLOUT (out), 19 RROUT (out), 20 NFLOUT (out), 21 NFROUT (out), 22 SUBROUT (out), 23 SUBLOUT (out), 24 VREFIN (power)

## M61524FP
designator U?
2-Channel Electronic Volume with 4 Input Selector, 42-Pin SOP; Published: 5-Feb-2010; DatasheetVersion: Rev.1.0, Sep-2003; PackageVersion: Sep-2005; PackageReference: PRSP0042GA-B; Publisher: Altium Limited; PackageDescription: 42-Pin Plastic Shrink SOP, 17.5 x 8.4 mm Body, 0.8 mm Pitch; Code_JEITA: P-SSOP42-8.4x17.5-0.80; ComponentLink1Description: Manufacturer Link; ComponentLink1URL: http://sg.renesas.com/fmwk.jsp?cnt=assp_category_landing.jsp&fp=/products/assp; ComponentLink2Description: Datasheet; ComponentLink2URL: http://documentation.renesas.com/eng/products/assp/rej03f0035_m61524fp.pdf; ComponentLink3Description: Packaging Specification; ComponentLink3URL: http://sg.renesas.com/media/products/common_info/package/pdf/ic/code/prsp0042ga_b.pdf
footprint PRSP0042GA-B_N (SOP, 42-Leads, Body 17.5x8.4mm, Pitch 0.8mm, IPC Medium Density)
footprint PRSP0042GA-B_L (SOP, 42-Leads, Body 17.5x8.4mm, Pitch 0.8mm, IPC High Density)
footprint PRSP0042GA-B_M (SOP, 42-Leads, Body 17.5x8.4mm, Pitch 0.8mm, IPC Low Density)
pins: 1 REFIN (in), 2 REFOUT (out), 3 INA1 (in), 4 INB1 (in), 5 INC1 (in), 6 IND1 (in), 7 VCUT, 8 REC1 (out), 9 AVOLIN1 (in), 10 TBI1, 11 TBO1, 12 TMI1, 13 TMO1, 14 TT1, 15 TOUT1 (out), 16 BVOLIN1 (in), 17 BB_A1 (in), 18 BB_B1 (in), 19 OUT1 (out), 20 VCC (power), 21 DATA (in), 22 CLOCK (in), 23 GND (power), 24 OUT2 (out), 25 BB_B2 (in), 26 BB_A2 (in), 27 BVOLIN2 (in), 28 TOUT2 (out), 29 TT2, 30 TMO2, 31 TMI2, 32 TBO2, 33 TBI2, 34 AVOLIN2 (in), 35 REC2 (out), 36 MICIN (in), 37 IND2 (in), 38 INC2 (in), 39 INB2 (in), 40 INA2 (in), 41 SUR2, 42 SUR1

## M61527FP
designator U?
6-Channel Electronic Volume with 10 Input Selectors, 80-Pin QFP; Published: 5-Feb-2010; DatasheetVersion: Rev.1.0, Sep-2003; PackageVersion: Sep-2005; PackageReference: PRQP0080GB-A; Publisher: Altium Limited; PackageDescription: 80-Pin Plastic Quad Flat Pack, 20 x 14 x 2.8 mm Body, 0.8 mm Pitch; Code_JEITA: P-QFP80-14x20-0.80; ComponentLink1Description: Manufacturer Link; ComponentLink1URL: http://sg.renesas.com/fmwk.jsp?cnt=assp_category_landing.jsp&fp=/products/assp; ComponentLink2Description: Datasheet; ComponentLink2URL: http://documentation.renesas.com/eng/products/assp/rej03f0036_m61527fp.pdf; ComponentLink3Description: Packaging Specification; ComponentLink3URL: http://sg.renesas.com/media/products/common_info/package/pdf/ic/code/prqp0080gb_a.pdf
footprint PRQP0080GB-A_N (QFP, 80-Leads, Body 20x14mm, Pitch 0.8mm, IPC Medium Density)
footprint PRQP0080GB-A_L (QFP, 80-Leads, Body 20x14mm, Pitch 0.8mm, IPC High Density)
footprint PRQP0080GB-A_M (QFP, 80-Leads, Body 20x14mm, Pitch 0.8mm, IPC Low Density)
part A pins: 1 INR3 (in), 2 INL2 (in), 3 INR2 (in), 4 INL1 (in), 5 INR1 (in), 7 CIN1 (in), 8 SWIN1 (in), 9 SRIN1 (in), 10 SLIN1 (in), 11 LIN1 (in), 12 RIN1 (in), 14 BALANCE L/+ (out), 15 BALANCE L/- (out), 17 BALANCE R/+ (out), 18 BALANCE R/- (out), 20 LIN2 (in), 21 RIN2 (in), 22 SRIN2 (in), 23 SLIN2 (in), 24 CIN2 (in), 25 SWIN2 (in), 27 CLOCK (in), 28 DATA (in), 29 LATCH (in), 33 SWSELOUT (out), 34 SWIN (in), 35 SWOUT (out), 36 COUT (out), 37 CVIN (in), 38 CSELOUT (out), 39 SLSELOUT (out), 40 SLVIN (in), 41 SLOUT (out), 42 SROUT (out), 43 SRVIN (in), 44 SRSELOUT (out), 45 RSELOUT (out), 46 RVIN (in), 47 ROUT (out), 54 LOUT (out), 55 LVIN (in), 56 LSELOUT (out), 58 RECL1 (out), 59 RECR1 (out), 60 RECL2 (out), 61 RECR2 (out), 62 RECL3 (out), 63 RECR3 (out), 65 INL10 / RECL4 (out), 66 INR10 / RECR4 (out), 68 INL9 (in), 69 INR9 (in), 70 INL8 (in), 71 INR8 (in), 72 INL7 (in), 73 INR7 (in), 74 INL6 (in), 75 INR6 (in), 76 INL5 (in), 77 INR5 (in), 78 INL4 (in), 79 INR4 (in), 80 INL3 (in)
part B pins: 6 GND (power), 13 GND (power), 16 GND (power), 19 GND (power), 26 DGND (power), 30 DVDD (power), 31 AVCC (power), 32 GND (power), 57 GND (power), 64 GND (power), 67 AVEE (power)
part C pins: 48 NC, 49 NC, 50 NC, 51 NC, 52 NC, 53 NC

## M61528FP
designator U?
SCF Type Fixed Equalizer for Car Audio, 24-Pin SOP; Published: 5-Feb-2010; DatasheetVersion: Rev.1.1, Dec-2003; PackageVersion: Sep-2005; PackageReference: PRSP0024GA-A; Publisher: Altium Limited; PackageDescription: 24-Pin Plastic Shrink SOP, 10.1 x 5.3 x 1.8 mm Body, 0.8 mm Pitch; Code_JEITA: P-SSOP24-5.3x10.1-0.80; ComponentLink1Description: Manufacturer Link; ComponentLink1URL: http://sg.renesas.com/fmwk.jsp?cnt=assp_category_landing.jsp&fp=/products/assp; ComponentLink2Description: Datasheet; ComponentLink2URL: http://documentation.renesas.com/eng/products/assp/rej03f0040_m61528fp.pdf; ComponentLink3Description: Packaging Specification; ComponentLink3URL: http://sg.renesas.com/media/products/common_info/package/pdf/ic/code/prsp0024ga_a.pdf
footprint PRSP0024GA-A_N (SOP, 24-Leads, Body 10.1x5.3mm, Pitch 0.8mm, IPC Medium Density)
footprint PRSP0024GA-A_L (SOP, 24-Leads, Body 10.1x5.3mm, Pitch 0.8mm, IPC High Density)
footprint PRSP0024GA-A_M (SOP, 24-Leads, Body 10.1x5.3mm, Pitch 0.8mm, IPC Low Density)
pins: 1 VREFIN (power), 2 GND (power), 3 FLIN (in), 4 FRIN (in), 5 RLIN (in), 6 RRIN (in), 7 DGND (power), 8 TEST, 9 NC (power), 10 NC (power), 11 NC (power), 12 OSCR (in), 13 OSCOUT, 14 OSCIN (in), 15 SACTIVE (out), 16 CLOCK (in), 17 DATA (in), 18 DGND (power), 19 GND (power), 20 RROUT (out), 21 RLOUT (out), 22 FROUT (out), 23 FLOUT (out), 24 VCC (power)

## M61529FP
designator U?
2-Channel Audio Signal Processor with 4 Input Selector and Surround, 42-Pin SOP; Published: 5-Feb-2010; DatasheetVersion: Rev.1.00, Sep-2003; PackageVersion: Sep-2005; PackageReference: PRSP0042GA-B; Publisher: Altium Limited; PackageDescription: 42-Pin Plastic Shrink SOP, 17.5 x 8.4 mm Body, 0.8 mm Pitch; Code_JEITA: P-SSOP42-8.4x17.5-0.80; ComponentLink1Description: Manufacturer Link; ComponentLink1URL: http://sg.renesas.com/fmwk.jsp?cnt=assp_category_landing.jsp&fp=/products/assp; ComponentLink2Description: Datasheet; ComponentLink2URL: http://documentation.renesas.com/eng/products/assp/rej03f0010_m61529fp.pdf; ComponentLink3Description: Packaging Specification; ComponentLink3URL: http://sg.renesas.com/media/products/common_info/package/pdf/ic/code/prsp0042ga_b.pdf
footprint PRSP0042GA-B_N (SOP, 42-Leads, Body 17.5x8.4mm, Pitch 0.8mm, IPC Medium Density)
footprint PRSP0042GA-B_L (SOP, 42-Leads, Body 17.5x8.4mm, Pitch 0.8mm, IPC High Density)
footprint PRSP0042GA-B_M (SOP, 42-Leads, Body 17.5x8.4mm, Pitch 0.8mm, IPC Low Density)
pins: 1 REF (power), 2 MIC (in), 3 INA1 (in), 4 INB1 (in), 5 INC1 (in), 6 IND1 (in), 7 RECA1 / INex1, 8 RECB1, 9 TMI1 (in), 10 TMO1 (out), 11 TCA1, 12 TCB1, 13 TCC1, 14 TOUT1 (out), 15 VOLIN1 (in), 16 BB_A1 (in), 17 BB_B1 (in), 18 OUT1 (out), 19 SAOUT (out), 20 VCC (power), 21 DATA (in), 22 CLOCK (in), 23 GND (power), 24 SWOUT (out), 25 OUT2 (out), 26 BB_B2 (in), 27 BB_A2 (in), 28 VOLIN2 (in), 29 TOUT2 (out), 30 TCC2, 31 TCB2, 32 TCA2, 33 TMO2 (out), 34 TMI2 (in), 35 RECB2, 36 RECA2 / INex2, 37 IND2 (in), 38 INC2 (in), 39 INB2 (in), 40 INA2 (in), 41 SUR2 / DPL2, 42 SUR1 / DPL1

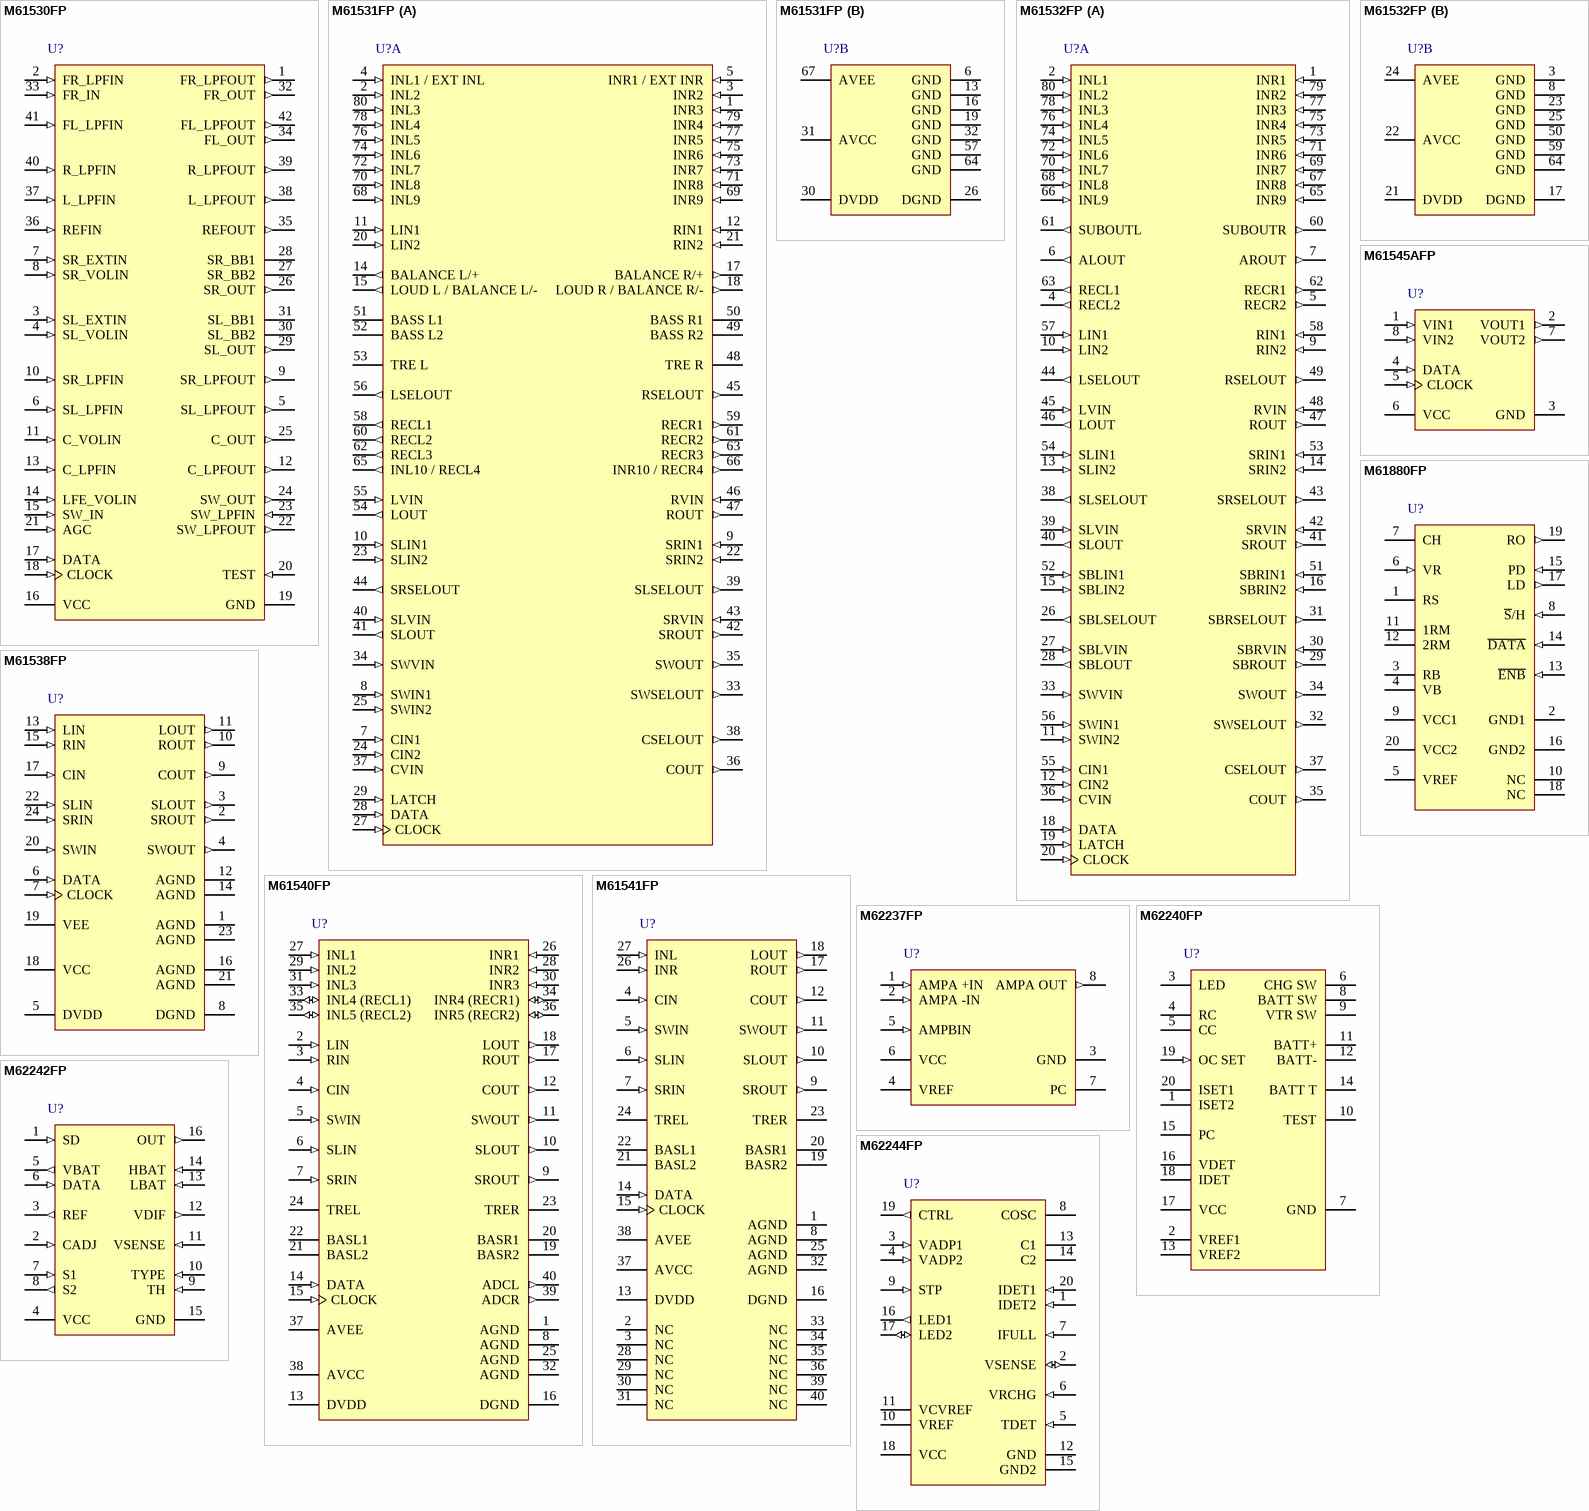
[diagram p8: symbols M61530FP to M62244FP]

## M61530FP
designator U?
4-Channel Electronic Volume with 5.1 Channel Analog Input, 42-Pin SOP; Published: 5-Feb-2010; DatasheetVersion: Rev.1.0, Sep-2003; PackageVersion: Sep-2005; PackageReference: PRSP0042GA-B; Publisher: Altium Limited; PackageDescription: 42-Pin Plastic Shrink SOP, 17.5 x 8.4 mm Body, 0.8 mm Pitch; Code_JEITA: P-SSOP42-8.4x17.5-0.80; ComponentLink1Description: Manufacturer Link; ComponentLink1URL: http://sg.renesas.com/fmwk.jsp?cnt=assp_category_landing.jsp&fp=/products/assp; ComponentLink2Description: Datasheet; ComponentLink2URL: http://documentation.renesas.com/eng/products/assp/rej03f0058_m61530fp.pdf; ComponentLink3Description: Packaging Specification; ComponentLink3URL: http://sg.renesas.com/media/products/common_info/package/pdf/ic/code/prsp0042ga_b.pdf
footprint PRSP0042GA-B_N (SOP, 42-Leads, Body 17.5x8.4mm, Pitch 0.8mm, IPC Medium Density)
footprint PRSP0042GA-B_L (SOP, 42-Leads, Body 17.5x8.4mm, Pitch 0.8mm, IPC High Density)
footprint PRSP0042GA-B_M (SOP, 42-Leads, Body 17.5x8.4mm, Pitch 0.8mm, IPC Low Density)
pins: 1 FR_LPFOUT (out), 2 FR_LPFIN (in), 3 SL_EXTIN (in), 4 SL_VOLIN (in), 5 SL_LPFOUT (out), 6 SL_LPFIN (in), 7 SR_EXTIN (in), 8 SR_VOLIN (in), 9 SR_LPFOUT (out), 10 SR_LPFIN (in), 11 C_VOLIN (in), 12 C_LPFOUT (out), 13 C_LPFIN (in), 14 LFE_VOLIN (in), 15 SW_IN (in), 16 VCC (power), 17 DATA (in), 18 CLOCK (in), 19 GND (power), 20 TEST (in), 21 AGC (in), 22 SW_LPFOUT (out), 23 SW_LPFIN (in), 24 SW_OUT (out), 25 C_OUT (out), 26 SR_OUT (out), 27 SR_BB2, 28 SR_BB1, 29 SL_OUT (out), 30 SL_BB2, 31 SL_BB1, 32 FR_OUT (out), 33 FR_IN (in), 34 FL_OUT (out), 35 REFOUT (out), 36 REFIN (in), 37 L_LPFIN (in), 38 L_LPFOUT (out), 39 R_LPFOUT (out), 40 R_LPFIN (in), 41 FL_LPFIN (in), 42 FL_LPFOUT (out)

## M61531FP
designator U?
6-Channel Electronic Volume with 10 Input Selectors, 80-Pin QFP; Published: 5-Feb-2010; DatasheetVersion: Rev.1.1, Jun-2004; PackageVersion: Sep-2005; PackageReference: PRQP0080GB-A; Publisher: Altium Limited; PackageDescription: 80-Pin Plastic Quad Flat Pack, 20 x 14 x 2.8 mm Body, 0.8 mm Pitch; Code_JEITA: P-QFP80-14x20-0.80; ComponentLink1Description: Manufacturer Link; ComponentLink1URL: http://sg.renesas.com/fmwk.jsp?cnt=assp_category_landing.jsp&fp=/products/assp; ComponentLink2Description: Datasheet; ComponentLink2URL: http://documentation.renesas.com/eng/products/assp/rej03f0050_m61531fp.pdf; ComponentLink3Description: Packaging Specification; ComponentLink3URL: http://sg.renesas.com/media/products/common_info/package/pdf/ic/code/prqp0080gb_a.pdf
footprint PRQP0080GB-A_N (QFP, 80-Leads, Body 20x14mm, Pitch 0.8mm, IPC Medium Density)
footprint PRQP0080GB-A_L (QFP, 80-Leads, Body 20x14mm, Pitch 0.8mm, IPC High Density)
footprint PRQP0080GB-A_M (QFP, 80-Leads, Body 20x14mm, Pitch 0.8mm, IPC Low Density)
part A pins: 1 INR3 (in), 2 INL2 (in), 3 INR2 (in), 4 INL1 / EXT INL (in), 5 INR1 / EXT INR (in), 7 CIN1 (in), 8 SWIN1 (in), 9 SRIN1 (in), 10 SLIN1 (in), 11 LIN1 (in), 12 RIN1 (in), 14 BALANCE L/+ (out), 15 LOUD L / BALANCE L/- (out), 17 BALANCE R/+ (out), 18 LOUD R / BALANCE R/- (out), 20 LIN2 (in), 21 RIN2 (in), 22 SRIN2 (in), 23 SLIN2 (in), 24 CIN2 (in), 25 SWIN2 (in), 27 CLOCK (in), 28 DATA (in), 29 LATCH (in), 33 SWSELOUT (out), 34 SWVIN (in), 35 SWOUT (out), 36 COUT (out), 37 CVIN (in), 38 CSELOUT (out), 39 SLSELOUT (out), 40 SLVIN (in), 41 SLOUT (out), 42 SROUT (out), 43 SRVIN (in), 44 SRSELOUT (out), 45 RSELOUT (out), 46 RVIN (in), 47 ROUT (out), 48 TRE R, 49 BASS R2, 50 BASS R1, 51 BASS L1, 52 BASS L2, 53 TRE L, 54 LOUT (out), 55 LVIN (in), 56 LSELOUT (out), 58 RECL1 (out), 59 RECR1 (out), 60 RECL2 (out), 61 RECR2 (out), 62 RECL3 (out), 63 RECR3 (out), 65 INL10 / RECL4 (out), 66 INR10 / RECR4 (out), 68 INL9 (in), 69 INR9 (in), 70 INL8 (in), 71 INR8 (in), 72 INL7 (in), 73 INR7 (in), 74 INL6 (in), 75 INR6 (in), 76 INL5 (in), 77 INR5 (in), 78 INL4 (in), 79 INR4 (in), 80 INL3 (in)
part B pins: 6 GND (power), 13 GND (power), 16 GND (power), 19 GND (power), 26 DGND (power), 30 DVDD (power), 31 AVCC (power), 32 GND (power), 57 GND (power), 64 GND (power), 67 AVEE (power)

## M61532FP
designator U?
8-Channel Electronic Volume with 9 Input Selectors, 80-Pin QFP; Published: 5-Feb-2010; DatasheetVersion: Rev.1.0, Sep-2003; PackageVersion: Sep-2005; PackageReference: PRQP0080GB-A; Publisher: Altium Limited; PackageDescription: 80-Pin Plastic Quad Flat Pack, 20 x 14 x 2.8 mm Body, 0.8 mm Pitch; Code_JEITA: P-QFP80-14x20-0.80; ComponentLink1Description: Manufacturer Link; ComponentLink1URL: http://sg.renesas.com/fmwk.jsp?cnt=assp_category_landing.jsp&fp=/products/assp; ComponentLink2Description: Datasheet; ComponentLink2URL: http://documentation.renesas.com/eng/products/assp/rej03f0041_m61532fp.pdf; ComponentLink3Description: Packaging Specification; ComponentLink3URL: http://sg.renesas.com/media/products/common_info/package/pdf/ic/code/prqp0080gb_a.pdf
footprint PRQP0080GB-A_N (QFP, 80-Leads, Body 20x14mm, Pitch 0.8mm, IPC Medium Density)
footprint PRQP0080GB-A_L (QFP, 80-Leads, Body 20x14mm, Pitch 0.8mm, IPC High Density)
footprint PRQP0080GB-A_M (QFP, 80-Leads, Body 20x14mm, Pitch 0.8mm, IPC Low Density)
part A pins: 1 INR1 (in), 2 INL1 (in), 4 RECL2 (out), 5 RECR2 (out), 6 ALOUT (out), 7 AROUT (out), 9 RIN2 (in), 10 LIN2 (in), 11 SWIN2 (in), 12 CIN2 (in), 13 SLIN2 (in), 14 SRIN2 (in), 15 SBLIN2 (in), 16 SBRIN2 (in), 18 DATA (in), 19 LATCH (in), 20 CLOCK (in), 26 SBLSELOUT (out), 27 SBLVIN (in), 28 SBLOUT (out), 29 SBROUT (out), 30 SBRVIN (in), 31 SBRSELOUT (out), 32 SWSELOUT (out), 33 SWVIN (in), 34 SWOUT (out), 35 COUT (out), 36 CVIN (in), 37 CSELOUT (out), 38 SLSELOUT (out), 39 SLVIN (in), 40 SLOUT (out), 41 SROUT (out), 42 SRVIN (in), 43 SRSELOUT (out), 44 LSELOUT (out), 45 LVIN (in), 46 LOUT (out), 47 ROUT (out), 48 RVIN (in), 49 RSELOUT (out), 51 SBRIN1 (in), 52 SBLIN1 (in), 53 SRIN1 (in), 54 SLIN1 (in), 55 CIN1 (in), 56 SWIN1 (in), 57 LIN1 (in), 58 RIN1 (in), 60 SUBOUTR (out), 61 SUBOUTL (out), 62 RECR1 (out), 63 RECL1 (out), 65 INR9 (in), 66 INL9 (in), 67 INR8 (in), 68 INL8 (in), 69 INR7 (in), 70 INL7 (in), 71 INR6 (in), 72 INL6 (in), 73 INR5 (in), 74 INL5 (in), 75 INR4 (in), 76 INL4 (in), 77 INR3 (in), 78 INL3 (in), 79 INR2 (in), 80 INL2 (in)
part B pins: 3 GND (power), 8 GND (power), 17 DGND (power), 21 DVDD (power), 22 AVCC (power), 23 GND (power), 24 AVEE (power), 25 GND (power), 50 GND (power), 59 GND (power), 64 GND (power)

## M61538FP
designator U?
6-Channel Electronic Volume, 24-Pin SOP; Published: 5-Feb-2010; DatasheetVersion: Rev.1.0, Mar-2004; PackageVersion: Sep-2005; PackageReference: PRSP0024GA-A; Publisher: Altium Limited; PackageDescription: 24-Pin Plastic Shrink SOP, 10.1 x 5.3 x 1.8 mm Body, 0.8 mm Pitch; Code_JEITA: P-SSOP24-5.3x10.1-0.80; ComponentLink1Description: Manufacturer Link; ComponentLink1URL: http://sg.renesas.com/fmwk.jsp?cnt=assp_category_landing.jsp&fp=/products/assp; ComponentLink2Description: Datasheet; ComponentLink2URL: http://documentation.renesas.com/eng/products/assp/rej03f0103_m61538fp.pdf; ComponentLink3Description: Packaging Specification; ComponentLink3URL: http://sg.renesas.com/media/products/common_info/package/pdf/ic/code/prsp0024ga_a.pdf
footprint PRSP0024GA-A_N (SOP, 24-Leads, Body 10.1x5.3mm, Pitch 0.8mm, IPC Medium Density)
footprint PRSP0024GA-A_L (SOP, 24-Leads, Body 10.1x5.3mm, Pitch 0.8mm, IPC High Density)
footprint PRSP0024GA-A_M (SOP, 24-Leads, Body 10.1x5.3mm, Pitch 0.8mm, IPC Low Density)
pins: 1 AGND (power), 2 SROUT (out), 3 SLOUT (out), 4 SWOUT (out), 5 DVDD (power), 6 DATA (in), 7 CLOCK (in), 8 DGND (power), 9 COUT (out), 10 ROUT (out), 11 LOUT (out), 12 AGND (power), 13 LIN (in), 14 AGND (power), 15 RIN (in), 16 AGND (power), 17 CIN (in), 18 VCC (power), 19 VEE (power), 20 SWIN (in), 21 AGND (power), 22 SLIN (in), 23 AGND (power), 24 SRIN (in)

## M61540FP
designator U?
6-Channel Electronic Volume with 5 Input Selector, 40-Pin QFP; Published: 5-Feb-2010; DatasheetVersion: Rev.1.0, May-2004; PackageVersion: 2005; PackageReference: PLQP0040JB-A; Publisher: Altium Limited; PackageDescription: 40-Pin Plastic Low-Profile QFP, 7 x 7 x 1.4 mm Body, 0.65 mm Pitch; Code_JEITA: P-LQFP40-7x7-0.65; ComponentLink1Description: Manufacturer Link; ComponentLink1URL: http://sg.renesas.com/fmwk.jsp?cnt=assp_category_landing.jsp&fp=/products/assp; ComponentLink2Description: Datasheet; ComponentLink2URL: http://documentation.renesas.com/eng/products/assp/rej03f0117_m61540fp.pdf; ComponentLink3Description: Packaging Specification; ComponentLink3URL: http://sg.renesas.com/media/products/common_info/package/pdf/ic/code/plqp0040jb_a.pdf
footprint PLQP0040JB-A_N (QFP, 40-Leads, Body 7x7mm, Pitch 0.65mm, IPC Medium Density)
footprint PLQP0040JB-A_L (QFP, 40-Leads, Body 7x7mm, Pitch 0.65mm, IPC High Density)
footprint PLQP0040JB-A_M (QFP, 40-Leads, Body 7x7mm, Pitch 0.65mm, IPC Low Density)
pins: 1 AGND (power), 2 LIN (in), 3 RIN (in), 4 CIN (in), 5 SWIN (in), 6 SLIN (in), 7 SRIN (in), 8 AGND (power), 9 SROUT (out), 10 SLOUT (out), 11 SWOUT (out), 12 COUT (out), 13 DVDD (power), 14 DATA (in), 15 CLOCK (in), 16 DGND (power), 17 ROUT (out), 18 LOUT (out), 19 BASR2, 20 BASR1, 21 BASL2, 22 BASL1, 23 TRER, 24 TREL, 25 AGND (power), 26 INR1 (in), 27 INL1 (in), 28 INR2 (in), 29 INL2 (in), 30 INR3 (in), 31 INL3 (in), 32 AGND (power), 33 INL4 (RECL1) (io), 34 INR4 (RECR1) (io), 35 INL5 (RECL2) (io), 36 INR5 (RECR2) (io), 37 AVEE (power), 38 AVCC (power), 39 ADCR (out), 40 ADCL (out)

## M61541FP
designator U?
6-Channel Electronic Volume with Tone Control, 40-Pin QFP; Published: 5-Feb-2010; DatasheetVersion: Rev.1.00, Sep-2004; PackageVersion: 2005; PackageReference: PLQP0040JB-A; Publisher: Altium Limited; PackageDescription: 40-Pin Plastic Low-Profile QFP, 7 x 7 x 1.4 mm Body, 0.65 mm Pitch; Code_JEITA: P-LQFP40-7x7-0.65; ComponentLink1Description: Manufacturer Link; ComponentLink1URL: http://sg.renesas.com/fmwk.jsp?cnt=assp_category_landing.jsp&fp=/products/assp; ComponentLink2Description: Datasheet; ComponentLink2URL: http://documentation.renesas.com/eng/products/assp/rej03f0122_m61541fp.pdf; ComponentLink3Description: Packaging Specification; ComponentLink3URL: http://sg.renesas.com/media/products/common_info/package/pdf/ic/code/plqp0040jb_a.pdf
footprint PLQP0040JB-A_N (QFP, 40-Leads, Body 7x7mm, Pitch 0.65mm, IPC Medium Density)
footprint PLQP0040JB-A_L (QFP, 40-Leads, Body 7x7mm, Pitch 0.65mm, IPC High Density)
footprint PLQP0040JB-A_M (QFP, 40-Leads, Body 7x7mm, Pitch 0.65mm, IPC Low Density)
pins: 1 AGND (power), 2 NC, 3 NC, 4 CIN (in), 5 SWIN (in), 6 SLIN (in), 7 SRIN (in), 8 AGND (power), 9 SROUT (out), 10 SLOUT (out), 11 SWOUT (out), 12 COUT (out), 13 DVDD (power), 14 DATA (in), 15 CLOCK (in), 16 DGND (power), 17 ROUT (out), 18 LOUT (out), 19 BASR2, 20 BASR1, 21 BASL2, 22 BASL1, 23 TRER, 24 TREL, 25 AGND (power), 26 INR (in), 27 INL (in), 28 NC, 29 NC, 30 NC, 31 NC, 32 AGND (power), 33 NC, 34 NC, 35 NC, 36 NC, 37 AVCC (power), 38 AVEE (power), 39 NC, 40 NC

## M61545AFP
designator U?
Dual Electronic Volume with Serial Data Microcomputer Interface, 8-Pin SOP; Published: 5-Feb-2010; DatasheetVersion: Rev.2.00, Dec-2005; PackageVersion: Sep-2005; PackageReference: PRSP0008DE-A; Publisher: Altium Limited; PackageDescription: 8-Pin Plastic Small Outline Package 1.27 mm Pitch; Code_JEITA: P-SOP8-4.4x4.85-1.27; ComponentLink1Description: Manufacturer Link; ComponentLink1URL: http://sg.renesas.com/fmwk.jsp?cnt=assp_category_landing.jsp&fp=/products/assp; ComponentLink2Description: Datasheet; ComponentLink2URL: http://documentation.renesas.com/eng/products/assp/rej03f0162_m61545afp.pdf; ComponentLink3Description: Packaging Specification; ComponentLink3URL: http://sg.renesas.com/media/products/common_info/package/pdf/ic/code/prsp0008de_a.pdf
footprint PRSP0008DE-A_N (SOP, 8-Leads, Body 4.85x4.4mm, Pitch 1.27mm, IPC Medium Density)
footprint PRSP0008DE-A_L (SOP, 8-Leads, Body 4.85x4.4mm, Pitch 1.27mm, IPC High Density)
footprint PRSP0008DE-A_M (SOP, 8-Leads, Body 4.85x4.4mm, Pitch 1.27mm, IPC Low Density)
pins: 1 VIN1 (in), 2 VOUT1 (out), 3 GND (power), 4 DATA (in), 5 CLOCK (in), 6 VCC (power), 7 VOUT2 (out), 8 VIN2 (in)